# Altium footprint library ANALOGDEVICES.PcbLib: 3 footprints
Each footprint in its own frame and in the unit in brackets; x right, y up, seen from the top. Pads: shape width x height; smd on the part's side, far side on the other; paste and mask are expansions set on the pad; w line width, h text height; cw(c..) or ccw(c..) is an arc to the next point about the centre after c.
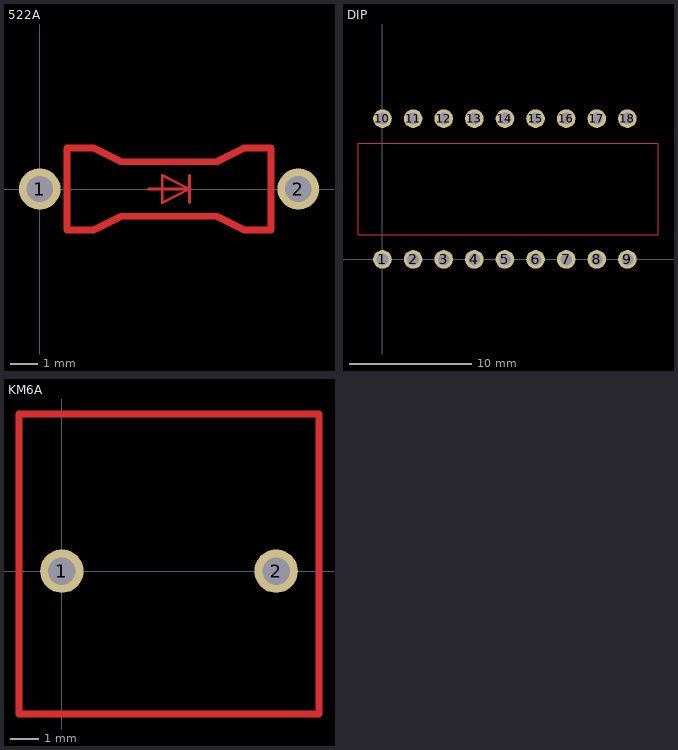
[diagram p0: the footprints below, top view; thin cyan lines are the x and y axes]

## 522A [mil]
pads (2):
  round 60 hole 38: 1(0,0) 2(374.02,0)
Top Layer:
  lines w3.94: 157.48,0 216.54,0 ; 216.54,-19.68 216.54,19.68 ; 216.54,0 177.17,-19.68 177.17,19.68 216.54,0
  lines w10: 39.37,-59.06 39.37,-19.68 39.37,19.68 39.37,59.06 78.74,59.06 118.11,39.37 157.48,39.37 196.85,39.37 236.22,39.37 255.91,39.37 295.28,59.06 334.65,59.06 334.65,19.68 334.65,-19.68 334.65,-59.06 295.28,-59.06 255.91,-39.37 216.54,-39.37 177.17,-39.37 137.8,-39.37 118.11,-39.37 78.74,-59.06 39.37,-59.06

## DIP [mil]
pads (18):
  round 60 hole 38: 1(0,0) 2(98.43,0) 3(196.85,0) 4(295.28,0) 5(393.7,0) 6(492.13,0) 7(590.55,0) 8(688.98,0) 9(787.4,0) 10(0,452.76) 11(98.43,452.76) 12(196.85,452.76) 13(295.28,452.76) 14(393.7,452.76) 15(492.13,452.76) 16(590.55,452.76) 17(688.98,452.76) 18(787.4,452.76)
Top Layer:
  lines w3.94: -78.74,78.74 885.83,78.74 885.83,98.43 885.83,137.8 885.83,177.17 885.83,216.54 885.83,255.91 885.83,295.28 885.83,334.65 885.83,374.02 866.14,374.02 826.77,374.02 787.4,374.02 748.03,374.02 708.66,374.02 669.29,374.02 629.92,374.02 590.55,374.02 -78.74,374.02 -78.74,78.74

## KM6A [mil]
pads (2):
  round 60 hole 38: 1(0,0) 2(295.28,0)
Top Layer:
  lines w10: -59.06,-196.85 354.33,-196.85 354.33,-19.68 354.33,216.54 -59.06,216.54 -59.06,-196.85